# Altium schematic symbol library agh_racing_2018.SchLib: 97 symbols
Pins are listed as number, name and electrical type; pins without a type are passive.

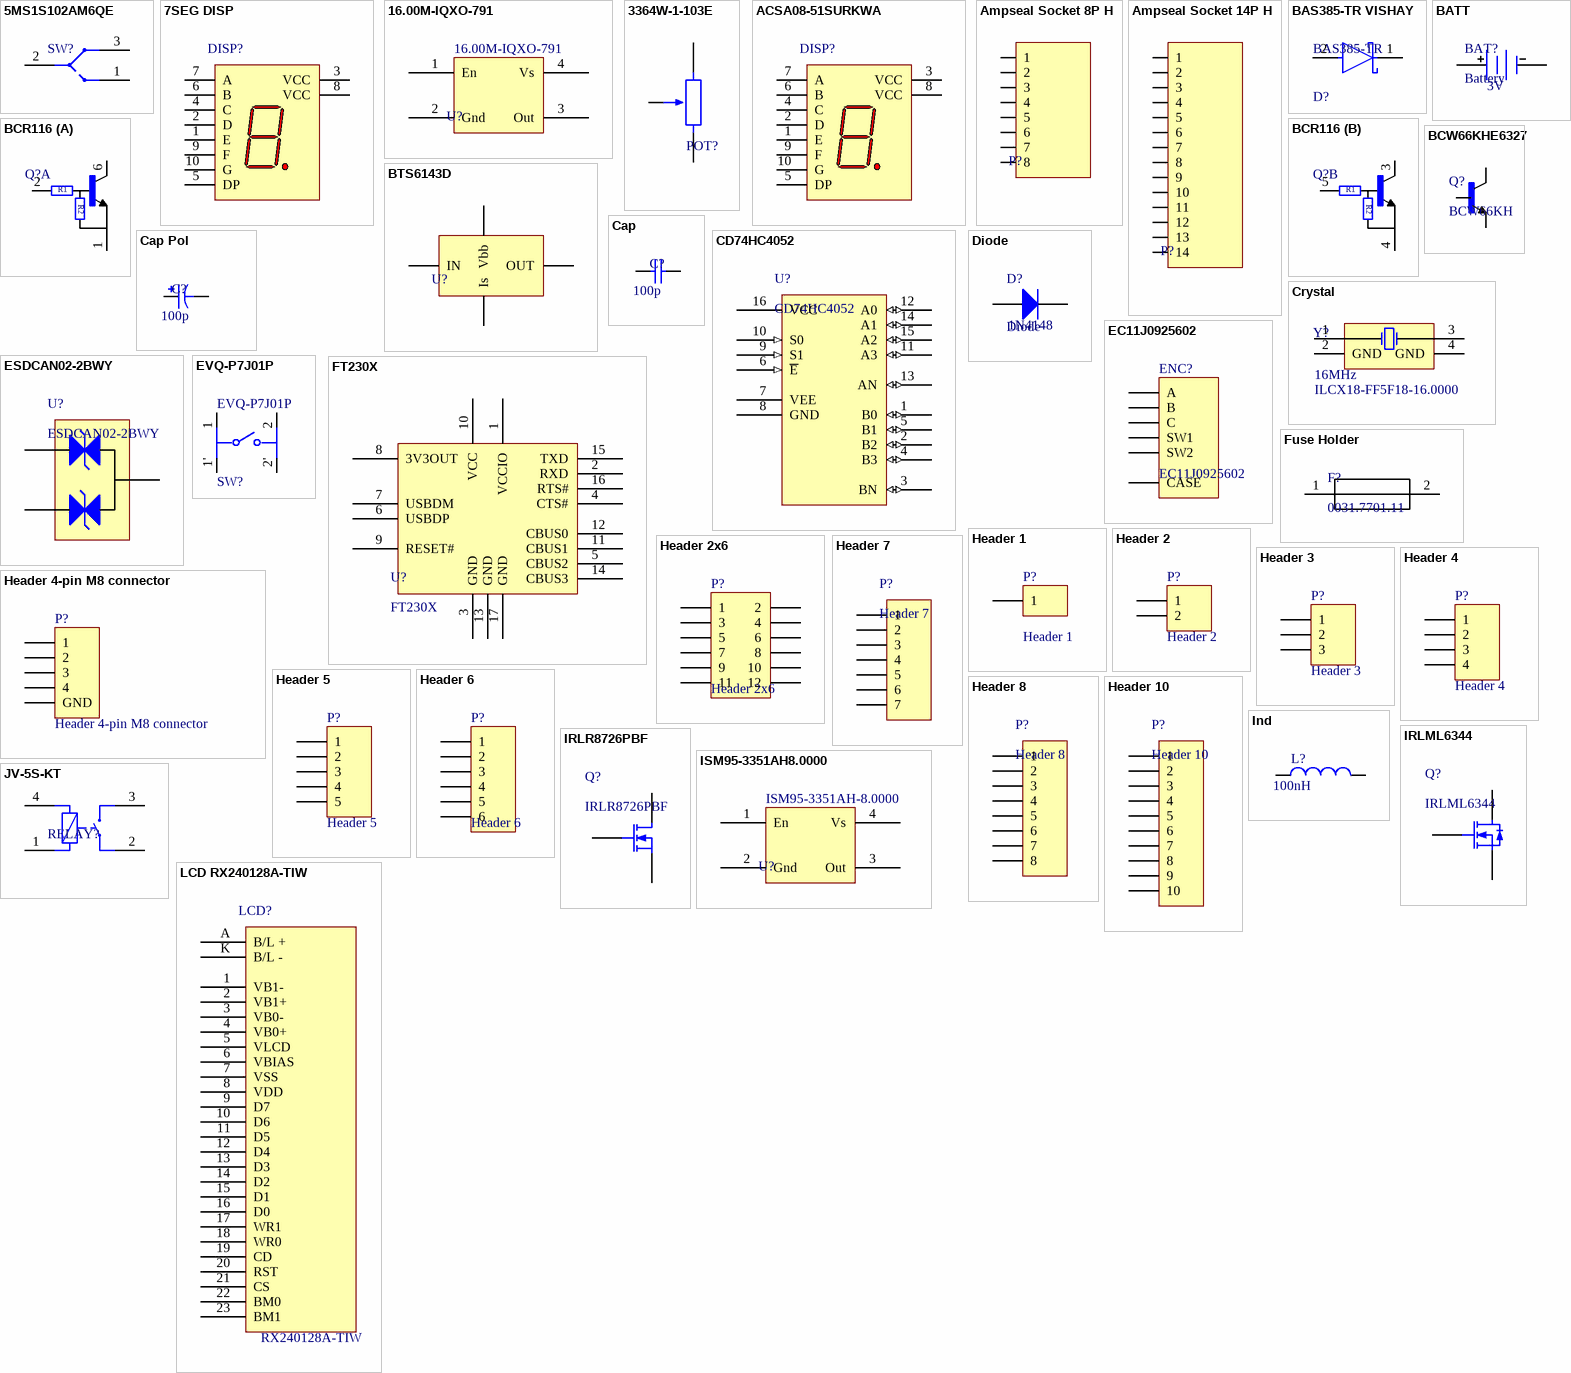
[diagram p0: symbols 5MS1S102AM6QE to LCD RX240128A-TIW]

## 5MS1S102AM6QE
designator SW?
Slide switch, 2 pos, right angle; Manufacturer: NINIGI; MPN: 5MS1S12AM6QE; SPN: 5MS1S102AM6QE; Supplier: TME
footprint 5MS1S102AM6QE (Slide switch, 2 pos, right angle)
pins: 1, 2, 3

## 7SEG DISP
designator DISP?  (value not drawn)
OPTO PLUS LED CORP. OPD-S8023LB-BW
footprint 7_SEG_LED_0.8_INCH (OPTO PLUS LED CORP. OPD-S8023LB-BW)
pins: 1 E "Cathode", 2 D "Cathode", 3 VCC (power) "Anode", 4 C "Cathode", 5 DP "Cathode", 6 B "Cathode", 7 A "Cathode", 8 VCC (power) "Anode", 9 F "Cathode", 10 G "Cathode"

## 16.00M-IQXO-791
designator U?  Name: 16.00M-IQXO-791
Crystal Clock Oscillator; Manufacturer: IQD FREQUENCY PRODUCTS; MPN: LFSPXO066657CUTT; Supplier: TME; SPN: 16.00M-IQXO-791
footprint ICLCX18
pins: 1 En, 2 Gnd, 3 Out, 4 Vs

## 3364W-1-103E
designator POT?
Trimming Potentiometer; Manufacturer: BOURNS; SPN: 3364W-1-103E; Supplier: TME; MPN: 3364W-1-103E
footprint 3364W-1-103E (Trimming Potentiometer)
pins: 1 CCW, 2 W, 3 CW

## ACSA08-51SURKWA
designator DISP?  (value not drawn)
Kingbright 0.8" Red 12mcd @ 10mA, common anode
footprint ACSA08-51SURKWA (Kingbright 0.8" SMD, common anode)
pins: 1 E "Cathode", 2 D "Cathode", 3 VCC (power) "Anode", 4 C "Cathode", 5 DP "Cathode", 6 B "Cathode", 7 A "Cathode", 8 VCC (power) "Anode", 9 F "Cathode", 10 G "Cathode"

## Ampseal Socket 8P H
designator P?
Ampseal socket, 8P, horizontal; Manufacturer: TE Connectivity; MPN: 1-776280-1; SPN: 571-1-776280-1; Supplier: Mouser
footprint AMPSEAL_8P_H_BK (Ampseal socket, 8P, horizontal, black)
pins: 1, 2, 3, 4, 5, 6, 7, 8

## Ampseal Socket 14P H
designator P?
Ampseal socket, 14P, horizontal; Manufacturer: TE Connectivity; MPN: 776266-5; SPN: 571-776266-5; Supplier: Mouser
footprint AMPSEAL_14P_H_B (Ampseal socket, 14P, horizontal, blue)
footprint AMPSEAL_14P_H_BK (Ampseal socket, 14P, horizontal, black)
pins: 1, 2, 3, 4, 5, 6, 7, 8, 9, 10, 11, 12, 13, 14

## BAS385-TR VISHAY
designator D?, comment BAS385-TR
DIODE SCHOTTKY 30V 200MA MICMELF; Manufacturer: Vishay; Value: 10pF; Peak Reverse Current: 2.3uA; Max Junction Temp: +125°C; Automotive Grade: Grade 1; Max Surge Forward Current: 5A; ComponentLink2Description: Datasheet; ComponentLink2URL: http://www.vishay.com/docs/85504/bas385.pdf; Device Class L3: Schottky Diodes; Device Class L2: Diodes; Device Class L1: Discrete Semiconductors; Mouser Description: Schottky Diodes & Rectifiers 30 Volt 200mA 300mA IFSM; Digikey Description: DIODE SCHOTTKY 30V 200MA MICMELF; Temperature: to +125°C; RoHS: TRUE; Temperature Range High: +125°C; Automotive: Yes; Reverse Voltage: 30V; Lead Free: Yes; Package: 6.560-5007.01-4; Capacitance: 10pF; Category: Diode; Octopart: https://octopart.com/bas385-tr-vishay-55507548; Forward Current: 200mA; Manufacturer Part Number: BAS385-TR; Height: 1.2mm
footprint MicroMELF_HD
footprint MicroMELF_LD
footprint MicroMELF_MD
pins: 1 C, 2 A

## BATT
designator BAT?, comment Battery  value 3V
footprint BR2032
footprint KEYSTONE 1056 (KEYSTONE KEYS1056  for  BR1220, CR1220 batteries, 4mm height, SMD)
pins: 1 +, 2 -

## BCR116
designator Q?, comment NPN BRT BCR116  (value not drawn)
NPN Transistors pair with built-in bias resistor, R1 = 4k7, R2 = 47k
footprint SOT363_IPC_MD (SOT363, 6-Leads, Body, Pitch 0,65mm, IPC Medium Density)
part A pins: 1 E1, 2 B1, 6 C1
part B pins: 3 C2, 4 E2, 5 B2
part A text: R1; R2
part B text: R1; R2

## BCW66KHE6327
designator Q?, comment BCW66KH
NPN Transistor
footprint SOT23_IPC_MD (SOT23, 3-Leads, Body 2.90x2.45mm, Pitch 0.95mm, IPC Medium Density)
pins: 1 E, 2 B, 3 C

## BTS6143D
designator U?
Power switch, high side; Manufacturer: INFINEON TECHNOLOGIES; MPN: BTS6143D; Supplier: TME; SPN: BTS6143D
footprint DPAK5_IPC_MD (D-PAK, 5-Pads, Body 6,2x6,7mm, IPC Medium Density); pin to pad 3>6
pins: 1 OUT, 2 IN, 3 Vbb, 4 Is, 5 OUT

## Cap
designator C?  value 100p  (hidden comment: Cap)
Capacitor
footprint CAP_0603_IPC_HD (Chip Capacitor, 2-Leads, Body 1,60x0,80mm, IPC High Density)
footprint CAP_0603_IPC_LD (Chip Capacitor, 2-Leads, Body 1.60x0.81mm, IPC Low Density)
footprint CAP_0603_IPC_MD (Chip Capacitor, 2-Leads, Body 1,60x0,80mm, IPC Medium Density)
footprint CAP_0805_IPC_HD (Chip Capacitor, 2-Leads, Body 2.00x1.25mm, IPC High Density)
footprint CAP_0805_IPC_LD (Chip Capacitor, 2-Leads, Body 2.00x1.25mm, IPC Low Density)
footprint CAP_0805_IPC_MD (Chip Capacitor, 2-Leads, Body 2.00x1.25mm, IPC Medium Density)
footprint CAP_1210 (Chip Capacitor, 2-Leads, Body 3,20x2,50mm, IPC Medium Density)
pins: 1, 2

## Cap Pol
designator C?  value 100p  (hidden comment: Cap Pol)
Polarized Capacitor
footprint CAP_SMD_C_IPC_HD (Molded Capacitor, 2-Leads, Body 6.30x3.20mm, IPC High Density)
footprint CAP_SMD_C_IPC_LD (Molded Capacitor, 2-Leads, Body 6.30x3.20mm, IPC Low Density)
footprint CAP_SMD_C_IPC_MD (Molded Capacitor, 2-Leads, Body 6.30x3.20mm, IPC Medium Density)
footprint CAP_SMD_D_IPC_MD (Molded Capacitor, 2-Leads, Body 7.30x4.30mm, IPC Medium Density)
footprint CAP_SMD_E_IPC_HD (Molded Capacitor, 2-Leads, Body 7.30x4.30mm, IPC High Density)
footprint CAP_SMD_E_IPC_LD (Molded Capacitor, 2-Leads, Body 7.30x4.30mm, IPC Low Density)
footprint CAP_SMD_E_IPC_MD (Molded Capacitor, 2-Leads, Body 7.30x4.30mm, IPC Medium Density)
pins: 1, 2
1 alternate drawing of the same symbol

## CD74HC4052
designator U?
MUX/DEMUX
footprint SOIC_16_IPC_MD (SOIC, 16-Leads, Pitch 1,27mm, IPC Medium Density)
footprint SSOP_16_IPC_MD (SSOP, 16-Leads, Pitch 0,64mm, IPC Medium Density)
footprint SO_14_IPC_MD (SOP, 14-Leads, Body 8,65x3,90mm, Pitch 1,27mm, IPC Medium Density)
pins: 1 B0 (io), 2 B2 (io), 3 BN (io), 4 B3 (io), 5 B1 (io), 6 ~{E} (in), 7 VEE (power), 8 GND (power), 9 S1 (in), 10 S0 (in), 11 A3 (io), 12 A0 (io), 13 AN (io), 14 A1 (io), 15 A2 (io), 16 VCC

## Crystal
designator Y?  value 16MHz  Manufacturer Part Number: ILCX18-FF5F18-16.0000
footprint ICLCX18
pins: 1 OSC1, 2 GND (power), 3 OSC3, 4 GND (power)

## Diode
designator D?  value 1N4148
footprint DIO_MELF_IPC_MD (MELF Diode, 2-Leads, Body 3.50x1.53mm, IPC MD)
footprint DO-214AC (JEDEC DO214 variation AC. SMA)
pins: 1 A, 2 K

## EC11J0925602
designator ENC?
Encoder EC11J0925602; Manufacturer: ALPS; Supplier: TME; Supplier Part Number: EC11J0925602; Manufacturer Part Number: EC11J0925602; Type: Encoder; Mounting Technology: SMD
footprint EC11J0925602 (Encoder, EC11J0925602); pin to pad SW1>D SW2>E
pins: A, B, C, CASE, SW1, SW2

## ESDCAN02-2BWY
designator U?
ESD CAN protection (2 transils)
footprint SOT23_IPC_MD (SOT23, 3-Leads, Body 2.90x2.45mm, Pitch 0.95mm, IPC Medium Density)
pins: 1 IN1, 2 IN2, 3 COM

## EVQ-P7J01P
designator SW?
SWITCH TACTILE SPST-NO 0.05A 12V; Manufacturer: Panasonic; Operating Force: 1.6N; Contact Current Rating: 50mA; Electromechanical Life: 100000Cycles; Contact Resistance: 500mΩ; Height: 1.55mm; Temperature Range Low: -20°C; Device Class L1: Electromechanical; Package: 0; RoHS: TRUE; Category: Switch; ComponentLink2Description: Datasheet; Device Class L2: Switches; Temperature Range High: +70°C; Mount: Surface Mount; Device Class L3: Tactile Switches; Temperature: -20°C to +70°C; Automotive: No; Manufacturer Part Number: EVQ-P7J01P; Mouser Description: Tactile Switches 3.5x2.9mm Right Ang Light Touch Switch; ComponentLink2URL: https://b2b-api.panasonic.eu/file_stream/pids/fileversion/2431; Lead Free: Yes; Octopart: https://octopart.com/evq-p7j01p-panasonic-29917078; Digikey Description: SWITCH TACTILE SPST-NO 0.05A 12V; Voltage Rating Dc: 12V; Throw Configuration: SPST-NO
footprint FP-EVQ-P7J01P-MFG
pins: 1, 1', 2, 2'

## FT230X
designator U?
footprint QFN16_IPC_MD (QFN, 16-Leads, Body 4.00x4.00mm, Pitch 0.65mm, Thermal Pad 2.08x2.08mm, IPC Medium Density)
pins: 1 VCCIO (power), 2 RXD, 3 GND (power), 4 CTS#, 5 CBUS2, 6 USBDP, 7 USBDM, 8 3V3OUT (power), 9 RESET#, 10 VCC (power), 11 CBUS1, 12 CBUS0, 13 GND (power), 14 CBUS3, 15 TXD, 16 RTS#, 17 GND (power)

## Fuse Holder
designator F?, comment 0031.7701.11
footprint FUSE_HOLDER
pins: 1 CANL, 2 CANL

## Header 1
designator P?
Header, 1-Pin
footprint HDR_1x1
footprint WIRE_PAD_1 ONE SIDE - small size (Wire Pads 2 Footprint)
footprint WIRE_PADS_1_BIG
pins: 1

## Header 2
designator P?
Header, 2-Pin
footprint HDR1X2 (Connector; Header; 2 Position)
footprint HDR1X2_angle (Connector; Header; 2 Position)
footprint HDR_1x2_3_94_LOCKING
footprint HDR_1x2_3_96_LOCKING_ANGLE
footprint WIRE_HOLES_2 (Wire Holes, 2-pin)
footprint WIRE_PADS_2 (Wire Pads 2 Footprint)
footprint WIRE_PADS_2_DOUBLE
pins: 1, 2

## Header 2x6
designator P?
Header, 2x6-Pin
pins: 1, 2, 3, 4, 5, 6, 7, 8, 9, 10, 11, 12

## Header 3
designator P?
Header, 3-Pin
footprint HDR_1X3 (Connector; Header; 3 Position)
footprint HDR1X3_ANGLE (Connector; Header; 3 Position)
footprint HDR_1x3_3_94_LOCKING
footprint HDR_1x3_3_96_LOCKING_ANGLE
footprint WIRE_PADS_3
footprint HDR_1X3 JST (Connector; Header; 3 Position)
footprint HEADER 1x3 2mm
footprint HEADER 1x3 1.27mm (Header, 3-Leads, Body 3.81x2.14mm, Pitch 1.27mm)
pins: 1, 2, 3

## Header 4
designator P?
Header, 4-Pin
footprint HDR1X4 (Connector; Header; 4 Position)
footprint HDR1X4_ANGLE (Connector; Header; 3 Position)
footprint HDR_1x4_3_94_LOCKING
footprint WIRE_PADS_4 (Wire Pads 2 Footprint)
footprint WIRE_PADS_4 ONE SIDE (Wire Pads 2 Footprint)
footprint HDR_1X4 JST (Connector; Header; 4 Position)
pins: 1, 2, 3, 4

## Header 4-pin M8 connector
designator P?
Header, 4-pin M8 connector
footprint M8S-04PMMR-SF8001 (CAN PCB Angle Connector)
pins: 1, 2, 3, 4, GND

## Header 5
designator P?
Header, 5-Pin
footprint HDR1X5 (Connector; Header; 5 Position)
footprint HDR_1x5_3_94_LOCKING
footprint WIRE_HOLES_5 (Wire Holes, 5-pin)
footprint HDR_1X5 JST (Connector; Header; 5 Position)
footprint HDR_1X5 2mm (Connector; Header; 5 Position)
pins: 1, 2, 3, 4, 5

## Header 6
designator P?
Header, 6-Pin
footprint HDR_1x6_3_94_LOCKING
footprint HEADER_2x3_1_27_MALE_SMD
footprint PINS_2x3_1_27_SMD
footprint SWD_POGO
footprint WIRE_PADS_6 (Wire Pads 2 Footprint)
footprint HDR_2x3_2.54_SMT
footprint HDR_1X6 2mm (Connector; Header; 6 Position)
footprint HEADER_2x3_1_17_WOMAN_THT
pins: 1, 2, 3, 4, 5, 6

## Header 7
designator P?
Header, 7-Pin
footprint HDR1X7
footprint WIRE_PADS_7 (Wire Pads 2 Footprint)
pins: 1, 2, 3, 4, 5, 6, 7

## Header 8
designator P?
Header, 8-Pin
footprint HDR_2x4
pins: 1, 2, 3, 4, 5, 6, 7, 8

## Header 10
designator P?
Header, 10-Pin
footprint HDR_1X10_Female (Connector; Header; 10 Position)
footprint HDR_1X10_Male (Connector; Header; 10 Position)
footprint SHDRV10W102P254_2X5_2032X895X915P
pins: 1, 2, 3, 4, 5, 6, 7, 8, 9, 10

## Ind
designator L?  value 100nH  (hidden comment: Ind)
Inductor
footprint IND_0603_IPC_HD (Chip Inductor, 2-Leads, Body 1.60x0.80mm, IPC High Density)
footprint IND_0603_IPC_LD (Chip Inductor, 2-Leads, Body 1.60x0.80mm, IPC Low Density)
footprint IND_0603_IPC_MD (Chip Inductor, 2-Leads, Body 1.60x0.80mm, IPC Medium Density)
footprint IND_DL50_IPC_MD (DL50, Inductor, Ferrocore, IPC Medium Density)
pins: 1, 2

## IRLML6344
designator Q?
N-MOSFET; Manufacturer Part Number: IRLML6344TRPBF; Manufacturer: INFINEON (IRF); Type: Transistor; Dren Current: 5A; Dren-Source Voltage: 30V; Supplier: TME; Supplier Part Number: IRLML6344TRPBF; Part Number: IRLML6344
footprint SOT23_IPC_MD (SOT23, 3-Leads, Body 2.90x2.45mm, Pitch 0.95mm, IPC Medium Density)
pins: 1 G, 2 S, 3 D

## IRLR8726PBF
designator Q?
n-mosfet
footprint DPAK_IPC_HD (D-PAK, 3-Pads, Body 6.21x6.73mm (max), IPC High Density)
footprint DPAK_IPC_LD
footprint DPAK_IPC_MD (D-PAK, 3-Pads, Body 6.20x6.66mm (max), IPC Medium Density)
pins: 1 G, 3 S, 4 D

## ISM95-3351AH8.0000
designator U?  Name: ISM95-3351AH-8.0000
Crystal Clock Oscillator; Manufacturer: ILSI; MPN: ISM95-3351AH-8.0000; Supplier: TME
footprint ISM95 (2.5x2.0x0.8mm SMD Oscillator)
pins: 1 En, 2 Gnd, 3 Out, 4 Vs

## JV-5S-KT
designator RELAY?
Relay mini, PCB; Manufacturer: FUJITSU-TAKAMISAWA; MPN: JV-5S-KT; Supplier: TME; SPN: JV-5S-KT
footprint JV-5S-KT (Relay mini, PCB)
pins: 1, 2, 3, 4

## LCD RX240128A-TIW
designator LCD?, comment Manufacturer Part Number: RX240128A-TIW  (hidden comment: LCD)
LCD, 240x128, FSTN, White on Black; Manufacturer: RAYSTAR OPTRONICS; Part Number: LCD RX240128A; Supplier Part Number: RX240128A-TIW; Supplier: TME; Type: LCD
footprint LCD RX240128A-TIW (LCD Footprint)
pins: 1 VB1-, 2 VB1+, 3 VB0-, 4 VB0+, 5 VLCD, 6 VBIAS, 7 VSS, 8 VDD, 9 D7, 10 D6, 11 D5, 12 D4, 13 D3, 14 D2, 15 D1, 16 D0, 17 WR1, 18 WR0, 19 CD, 20 RST, 21 CS, 22 BM0, 23 BM1, A B/L +, K B/L -

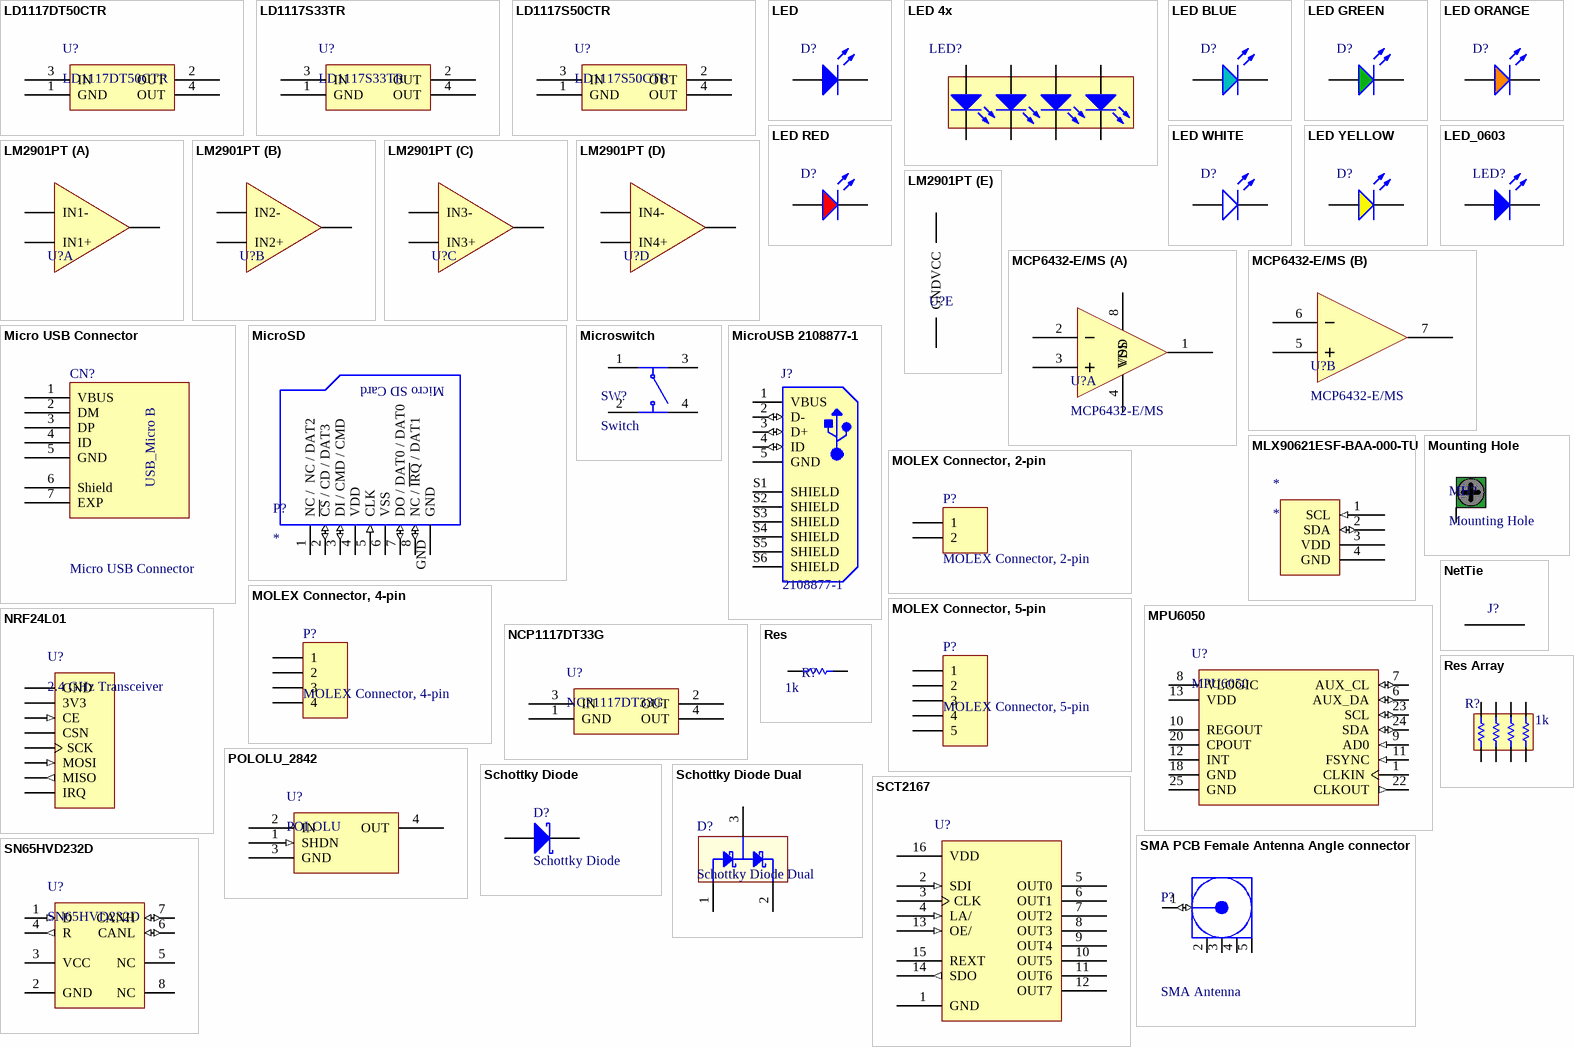
[diagram p1: symbols LD1117DT50CTR to SN65HVD232D]

## LD1117DT50CTR
designator U?
footprint DPAK_IPC_HD (D-PAK, 3-Pads, Body 6.21x6.73mm (max), IPC High Density)
footprint DPAK_IPC_LD
footprint DPAK_IPC_MD (D-PAK, 3-Pads, Body 6.20x6.66mm (max), IPC Medium Density)
pins: 1 GND (power), 2 OUT (power), 3 IN (power), 4 OUT (power)

## LD1117S33TR
designator U?
footprint SOT223_IPC_HD (SOT223, 4-Leads, Body 6.50x7.00mm (avg), Pitch 2.30mm, IPC High Density)
footprint SOT223_IPC_LD (SOT223, 4-Leads, Body 6.50x7.00mm (avg), Pitch 2.30mm, IPC Low Density)
footprint SOT223_IPC_MD (SOT223, 4-Leads, Body 6.50x7.00mm (avg), Pitch 2.30mm, IPC Medium Density)
pins: 1 GND (power), 2 OUT (power), 3 IN (power), 4 OUT (power)

## LD1117S50CTR
designator U?
footprint SOT223_IPC_HD (SOT223, 4-Leads, Body 6.50x7.00mm (avg), Pitch 2.30mm, IPC High Density)
footprint SOT223_IPC_LD (SOT223, 4-Leads, Body 6.50x7.00mm (avg), Pitch 2.30mm, IPC Low Density)
footprint SOT223_IPC_MD (SOT223, 4-Leads, Body 6.50x7.00mm (avg), Pitch 2.30mm, IPC Medium Density)
pins: 1 GND (power), 2 OUT (power), 3 IN (power), 4 OUT (power)

## LED
designator D?
pins: 1 A, 2 K

## LED 4x
designator LED?
Manufacturer: Lucky Light; MPN: LL-S194PUAC-2A; Supplier: TME; SPN: LL-S194PUAC-2A
footprint MENTOR 1296.2022 (4 x Molded Diode with light guide tubes)
pins: 1 A1, 2 K1, 3 A2, 4 K2, 5 A3, 6 K3, 7 A4, 8 K4

## LED BLUE
designator D?
footprint KPA_2106
footprint LED_0603_BLUE_IPC_MD (Molded Diode, 2-Leads, Body 1,60x0,80mm, IPC Medium Density)
pins: 1 A, 2 K

## LED GREEN
designator D?
footprint KPA_2106
footprint LED_0603_GREEN_IPC_MD (Molded Diode, 2-Leads, Body 1,60x0,80mm, IPC Medium Density)
pins: 1 A, 2 K

## LED ORANGE
designator D?
footprint KPA_2106
pins: 1 A, 2 K

## LED RED
designator D?
footprint KPA_2106
footprint LED_0603_RED_IPC_MD (Molded Diode, 2-Leads, Body 1,60x0,80mm, IPC Medium Density)
pins: 1 A, 2 K

## LED WHITE
designator D?
pins: 1 A, 2 K

## LED YELLOW
designator D?
footprint KPA_2106
footprint LED_0603_YELLOW_IPC_MD (Molded Diode, 2-Leads, Body 1,60x0,80mm, IPC Medium Density)
pins: 1 A, 2 K

## LED_0603
designator LED?
Manufacturer: Lucky Light; MPN: LL-S194PUAC-2A; Supplier: TME; SPN: LL-S194PUAC-2A
footprint LED_0603_IPC_MD (Molded Diode, 2-Leads, Body 1,60x0,80mm, IPC Medium Density)
pins: 1 K, 2 A

## LM2901PT
designator U?
Quad voltage comparator; Manufacturer: ST MICROELECTRONICS; SPN: LM2901PT; Supplier: TME; MPN: LM2901PT
footprint TSSOP14_IPC_MD (TSSOP, 14-Leads, Body 5,00x4,40mm, Pitch 0,65mm, IPC Medium Density)
part A pins: 2 OUT1, 4 IN1-, 5 IN1+
part B pins: 1 OUT2, 6 IN2-, 7 IN2+
part C pins: 8 IN3-, 9 IN3+, 14 OUT3
part D pins: 10 IN4-, 11 IN4+, 13 OUT4
part E pins: 3 VCC, 12 GND

## MCP6432-E/MS
designator U?
footprint MSOP8_IPC_MD (TSOP, 8-Leads, Body 3.00x3.00mm, Pitch 0.65mm, IPC Medium Density)
part A pins: 1 VOUTA, 2 VINA-, 3 VINA+, 4 VSS (power), 8 VDD (power)
part B pins: 5 VINB+, 6 VINB-, 7 VOUTB

## Micro USB Connector
designator CN?
pins: 1 VBUS, 2 DM, 3 DP, 4 ID, 5 GND, 6 Shield, 7 EXP
text: USB_Micro B

## MicroSD
designator P?
Micro SD Card Connector
footprint MICROSDCARD_SOCKET (MOLEX 502774-0891 - 1.10mm Pitch microSD* Memory Card Connector, Reverse Mount Surface Mount, Push-Push Type)
pins: 1 NC /  NC / DAT2, 2 ~{CS} / CD / DAT3 (io) "SPI bus mode: SPI Card Select (negative logic) // One-bit SDIO: Card Detection", 3 DI / CMD / CMD (io) "SPI bus mode: SPI Card Data In [MOSI] // One-bit SDIO: Command, Rsponse", 4 VDD (power) "Power", 5 CLK (in) "Serial Clock", 6 VSS (power) "GND", 7 DO / DAT0 / DAT0 (io) "SPI bus mode: SPI Serial Data Out [MISO] // One-bit SDIO: SD Serial Data 0", 8 NC / ~{IRQ} / DAT1 (io) "Unused (memory cards) or Interrupt (SDIO cards) (negative logic)", GND (power) "Connected to housing"
text: Micro SD Card

## Microswitch
designator SW?, comment Switch
footprint Microswitch_SMD_4_3mm (6*6mm vertical type, SMD, height 4.3mm, NINIGI, TACTM-64N-F)
pins: 1, 2, 3, 4

## MicroUSB 2108877-1
designator J?, comment 2108877-1
TE Connectivity
footprint MicroUSB_2108877-1
pins: 1 VBUS (power), 2 D- (io), 3 D+ (io), 4 ID (io), 5 GND (power), S1 SHIELD, S2 SHIELD, S3 SHIELD, S4 SHIELD, S5 SHIELD, S6 SHIELD

## MLX90621ESF-BAA-000-TU
designator *
IR Temperature Sensor 16x4 array FOV 120 deg
footprint TO-39 (Footprint not found)
pins: 1 SCL (in), 2 SDA (io), 3 VDD (power), 4 GND (power)

## MOLEX Connector, 2-pin
designator P?
Manufacturer Part Number: 022057028 22-05-7028 A-7395-2B; Supplier: TME; Supplier Part Number: MX-7395-02B; Manufacturer: MOLEX; Mounting Technology: THT; Type: Connector
footprint MOLEX_2PIN (MOLEX Connector, 2-pin)
pins: 1, 2

## MOLEX Connector, 4-pin
designator P?
Manufacturer Part Number: 022057048 22-05-7048 AE-7395-4B; Supplier: TME; Supplier Part Number: MX-7395-04B; Manufacturer: MOLEX; Mounting Technology: THT; Type: Connector
footprint MOLEX_4PIN (MOLEX Connector, 4-pin)
pins: 1, 2, 3, 4

## MOLEX Connector, 5-pin
designator P?
Manufacturer Part Number: 022057058 22-05-7058 A-7395-5B; Supplier: TME; Supplier Part Number: MX-7395-05B; Manufacturer: MOLEX; Mounting Technology: THT; Type: Connector
footprint MOLEX_5PIN (MOLEX Connector, 5-pin)
pins: 1, 2, 3, 4, 5

## Mounting Hole
designator MH?  (no BOM)
footprint MOUNTING HOLE 2mm
footprint MOUNTING HOLE 3mm
pins: MOUNTING

## MPU6050
designator U?
3 axis accelerometer and gyroscope
footprint QFN24_IPC_MD (QFN, 24-Leads, Body 4,00x4,00mm, Pitch 0,50mm, Thermal Pad 2,70x2,70mm, IPC Medium Density)
pins: 1 CLKIN, 6 AUX_DA (io), 7 AUX_CL (io), 8 VLOGIC (power), 9 AD0 (in), 10 REGOUT, 11 FSYNC (in), 12 INT (oc), 13 VDD (power), 18 GND (power), 19 RESV hidden, 20 CPOUT, 21 RESV hidden, 22 CLKOUT (out), 23 SCL (io), 24 SDA (io), 25 GND (power)

## NCP1117DT33G
designator U?
footprint DPAK_IPC_HD (D-PAK, 3-Pads, Body 6.21x6.73mm (max), IPC High Density)
footprint DPAK_IPC_LD
footprint DPAK_IPC_MD (D-PAK, 3-Pads, Body 6.20x6.66mm (max), IPC Medium Density)
pins: 1 GND (power), 2 OUT (power), 3 IN (power), 4 OUT (power)

## NetTie
designator J?  (value not drawn)  (net tie, no BOM)
footprint NETTIE
footprint NETTIE_10MIL
footprint NETTIE_20mil
pins: 1, 2

## NRF24L01
designator U?, comment 2.4 GHz Transceiver
footprint NRF24L01
pins: 1 GND (power), 2 3V3 (power), 3 CE (in), 4 CSN, 5 SCK, 6 MOSI (in), 7 MISO (out), 8 IRQ

## POLOLU_2842
designator U?, comment POLOLU
footprint POLOLU_MINI
footprint POLOLU_MINI_GOLDPINS
pins: 1 SHDN (in), 2 IN (power), 3 GND (power), 4 OUT (power)

## Res
designator R?  value 1k  (hidden comment: Res)
Resistor
footprint RES_0603_IPC_HD (Chip Resistor, 2-Leads, Body 1,55x0,80mm, IPC High Density)
footprint RES_0603_IPC_MD (Chip Resistor, 2-Leads, Body 1,55x0,80mm, IPC Medium Density)
footprint RES_0805_IPC_MD (Chip Resistor, 2-Leads, 0805, Royal Ohm, IPC Medium Density)
footprint RES_1206_IPC_MD (Chip Resistor, 2-Leads, 1206, IPC Medium Density)
pins: 1, 2

## Res Array
designator R?, comment value 1k  (hidden comment: Res)
Array Chip Resistors
footprint RES_ARR_1206_IPC_LD (Chip Array, Concave, 8-Leads, Pitch 0,80mm,  Body 3,20x1,60mm,  IPC Low Density)
footprint RES_ARR_1206_IPC_MD (Chip Array, Concave, 8-Leads, Pitch 0,80mm,  Body 3,20x1,60mm,  IPC Medium Density)
pins: 1, 2, 3, 4, 5, 6, 7, 8

## Schottky Diode
designator D?
Manufacturer: VISHAY; Manufacturer Part Number: LL42-GS08 (for MiniMELF); Supplier: TME
footprint DO214AB_IPC_MD (Molded Diode, DO214AB, Diotec Semiconductor, IPC Medium Density)
footprint DO-214AC (JEDEC DO214 variation AC. SMA)
footprint MiniMELF_IPC_MD (MELF Diode, 2-Leads, Body 3.50x1.65mm, IPC Medium Density)
pins: 1 A, 2 K

## Schottky Diode Dual
designator D?
Schottky Diode Dual, max 00mA Forward Current; Manufacturer: VISHAY; Manufacturer Part Number: BAT54S; Supplier: TME; Supplier Part Number: BAT54S-E3-08
footprint SOT23_IPC_MD (SOT23, 3-Leads, Body 2.90x2.45mm, Pitch 0.95mm, IPC Medium Density)
pins: 1, 2, 3

## SCT2167
designator U?  (value not drawn)
Led controller
footprint SSOP_16_IPC_MD (SSOP, 16-Leads, Pitch 0,64mm, IPC Medium Density)
pins: 1 GND (power), 2 SDI (in), 3 CLK, 4 LA/ (in), 5 OUT0 (oc), 6 OUT1 (oc), 7 OUT2 (oc), 8 OUT3 (oc), 9 OUT4 (oc), 10 OUT5 (oc), 11 OUT6 (oc), 12 OUT7 (oc), 13 OE/ (in), 14 SDO (out), 15 REXT, 16 VDD (power)

## SMA PCB Female Antenna Angle connector
designator P?, comment SMA Antenna
Gniazdo; SMA; żeńskie; kątowe 90°; 50Ω; THT; na PCB; teflon; złocony; Manufaturer: TE CONNECTIVITY; Manufacturer Symbol: 5-1814400-1; Supplier: TME; Supplier Symbol: 5-1814400-1
footprint SMA_PCB_Female_Angle_connector
pins: 1 Signal (io) "Signal Pin", 2 GND (power), 3 GND (power), 4 GND (power), 5 GND (power)

## SN65HVD232D
designator U?
3.3V CAN Transceiver with Standby Mode, 17 mA, -40 to 85 degC, 8-pin SOIC (D), Green (RoHS & no Sb/Br)
footprint SOIC_8_IPC_HD (SOIC, 8-Leads, Body 4.90x3.90mm, Pitch 1.27mm, IPC High Density)
footprint SOIC_8_IPC_MD (SOIC, 8-Leads, Pitch 1,27mm, IPC Medium Density)
pins: 1 D (in) "Driver input", 2 GND (power) "Ground", 3 VCC (power) "Supply voltage", 4 R (out) "Receiver output", 5 NC, 6 CANL (io) "Low bus output", 7 CANH (io) "High bus output", 8 NC

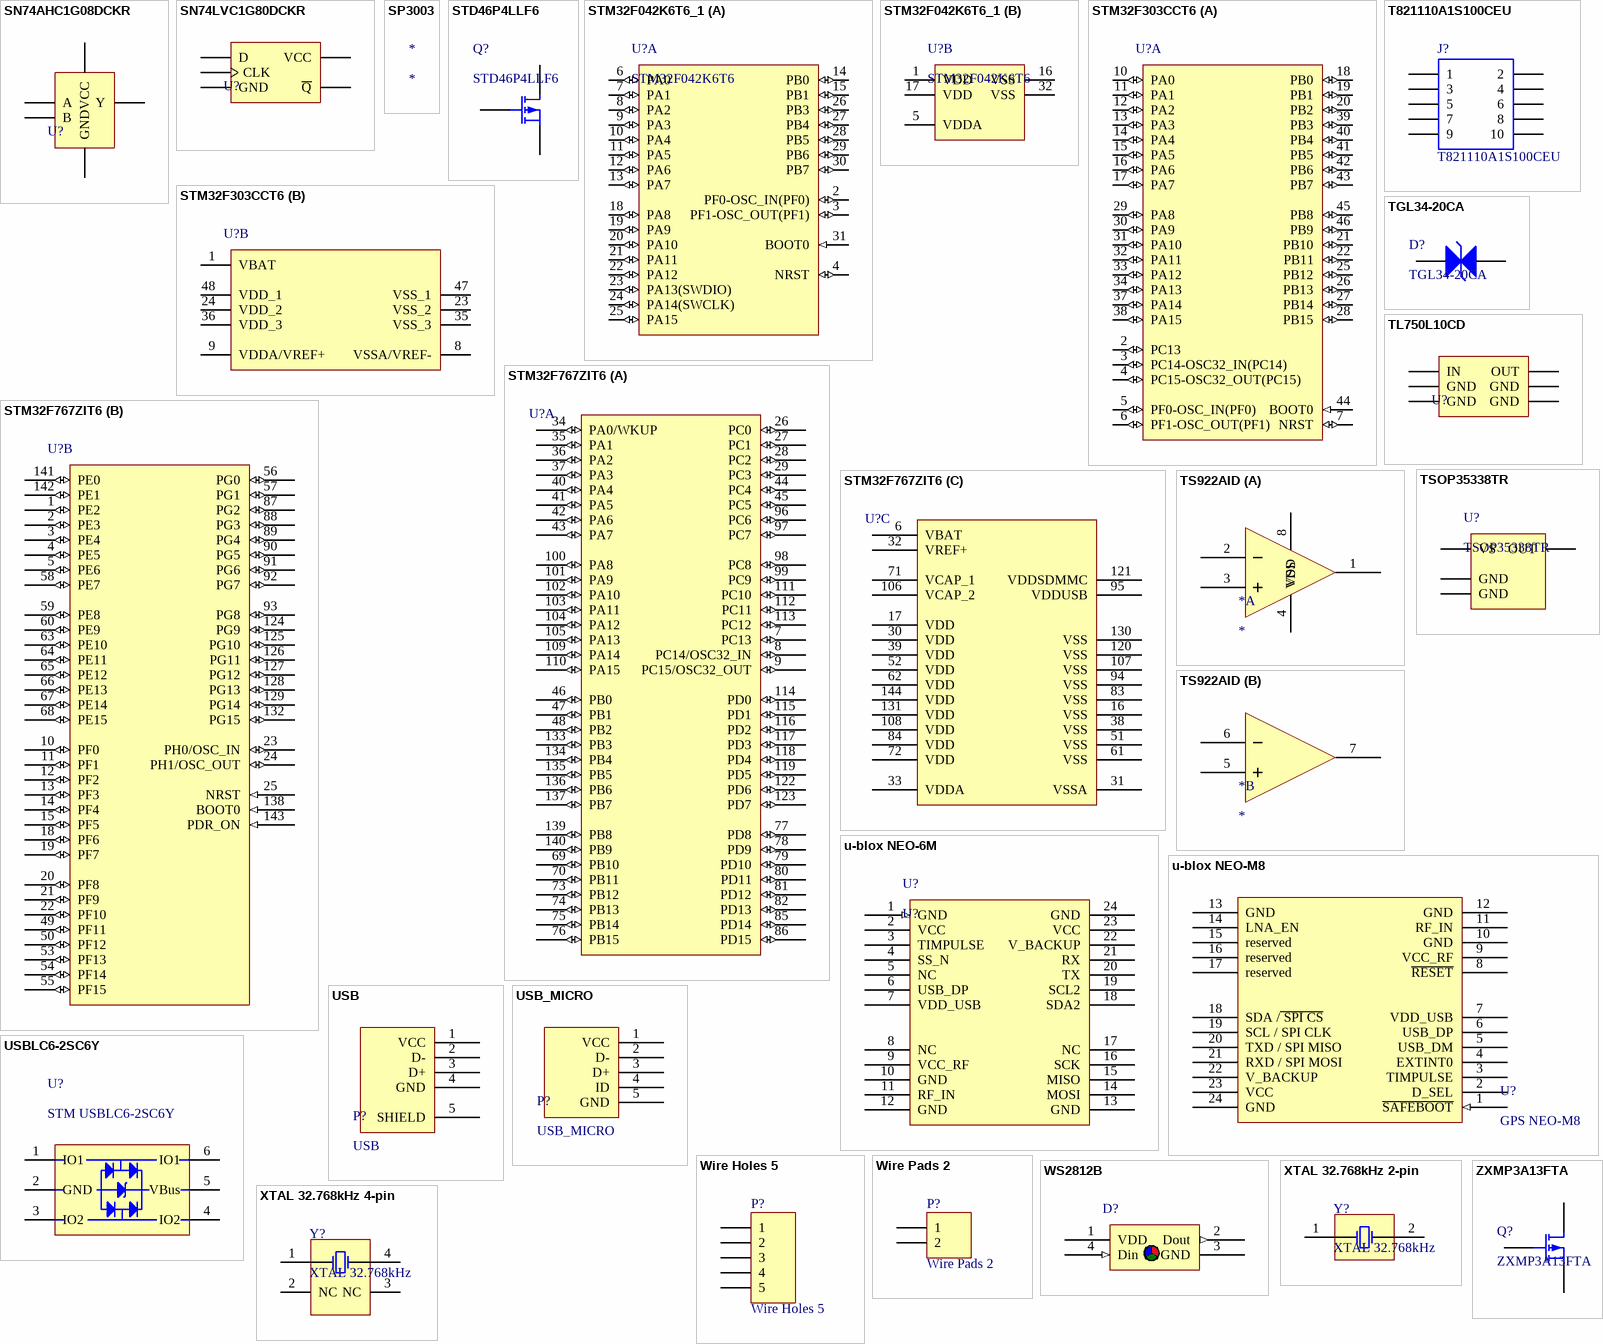
[diagram p2: symbols SN74AHC1G08DCKR to ZXMP3A13FTA]

## SN74AHC1G08DCKR
designator U?
AND gate; Manufacturer: TEXAS INSTRUMENTS; SPN: SN74AHC1G08DCKR; Supplier: TME; MPN: SN74AHC1G08DCKR
footprint SC70-5_IPC_MD (SOT23, 5-Leads, Body 1,30x2,10mm, Pitch 0,65mm, IPC Medium Density)
pins: 1 A, 2 B, 3 GND, 4 Y, 5 VCC

## SN74LVC1G80DCKR
designator U?
D FlipFlop; Manufacturer: TEXAS INSTRUMENTS; SPN: SN74LVC1G80DCKR; Supplier: TME; MPN: SN74LVC1G80DCKR
footprint SC70-5_IPC_MD (SOT23, 5-Leads, Body 1,30x2,10mm, Pitch 0,65mm, IPC Medium Density)
pins: 1 D, 2 CLK, 3 GND, 4 ~{Q}, 5 VCC

## SP3003
designator *

## STD46P4LLF6
designator Q?
p-mosfet
footprint DPAK_IPC_HD (D-PAK, 3-Pads, Body 6.21x6.73mm (max), IPC High Density)
footprint DPAK_IPC_LD
footprint DPAK_IPC_MD (D-PAK, 3-Pads, Body 6.20x6.66mm (max), IPC Medium Density)
pins: 1 G, 3 S, 4 D

## STM32F042K6T6_1
designator U?, comment STM32F042K6T6
ARM Cortex-M0 32-bit MCU, 32 KB Flash, 6 KB Internal RAM, 26 I/Os, 32-pin LQFP, -40 to 85 degC, Tray
footprint LQFP32_IPC_MD (TQFP, 32-Leads, Body 7.00x7.00mm, Pitch 0.80mm, IPC Medium Density)
footprint LQFP32_IPC_HD (TQFP, 32-Leads, Body 7.00x7.00mm, Pitch 0.80mm, IPC High Density)
footprint LQFP32_IPC_LD (TQFP, 32-Leads, Body 7.00x7.00mm, Pitch 0.80mm, IPC Low Density)
part A pins: 2 PF0-OSC_IN(PF0) (io) "PF0-OSC_IN(PF0)/OSC_IN", 3 PF1-OSC_OUT(PF1) (io) "PF1-OSC_OUT(PF1)/OSC_OUT", 4 NRST (io) "Device reset input / internal reset output (active low)", 6 PA0 (io) "PA0/USART1_CTS/ADC_IN0,RTC_TAMP2,WKUP1", 7 PA1 (io) "PA1/USART1_RTS,EVENTOUT/ADC_IN1", 8 PA2 (io) "PA2/USART1_TX/ADC_IN2", 9 PA3 (io) "PA3/USART1_RX/ADC_IN3", 10 PA4 (io) "PA4/SPI1_NSS,USART1_CK,TIM14_CH1/ADC_IN4", 11 PA5 (io) "PA5/SPI1_SCK/ADC_IN5", 12 PA6 (io) "PA6/SPI1_MISO,TIM3_CH1,TIM1_BKIN,TIM16_CH1,EVENTOUT/ADC_IN6", 13 PA7 (io) "PA7/SPI1_MOSI,TIM3_CH2,TIM14_CH1,TIM1_CH1N,TIM17_CH1,EVENTOUT/ADC_IN7", 14 PB0 (io) "PB0/TIM3_CH3,TIM1_CH2N,EVENTOUT/ADC_IN8", 15 PB1 (io) "PB1/TIM3_CH4,TIM14_CH1,TIM1_CH3N/ADC_IN9", 18 PA8 (io) "PA8/USART1_CK,TIM1_CH1,EVENTOUT,MCO", 19 PA9 (io) "PA9/USART1_TX,TIM1_CH2,I2C1_SCL", 20 PA10 (io) "PA10/USART1_RX,TIM1_CH3,TIM17_BKIN,I2C1_SDA", 21 PA11 (io) "PA11/USART1_CTS,TIM1_CH4,EVENTOUT", 22 PA12 (io) "PA12/USART1_RTS,TIM1_ETR,EVENTOUT", 23 PA13(SWDIO) (io) "PA13(SWDIO)/IR_OUT,SWDIO", 24 PA14(SWCLK) (io) "PA14(SWCLK)/USART1_TX,SWCLK", 25 PA15 (io) "PA15/SPI1_NSS,USART1_RX,EVENTOUT", 26 PB3 (io) "PB3/SPI1_SCK,EVENTOUT", 27 PB4 (io) "PB4/SPI1_MISO,TIM3_CH1,EVENTOUT", 28 PB5 (io) "PB5/SPI1_MOSI,I2C1_SMBA,TIM16_BKIN,TIM3_CH2", 29 PB6 (io) "PB6/I2C1_SCL,USART1_TX,TIM16_CH1N", 30 PB7 (io) "PB7/I2C1_SDA,USART1_RX,TIM17_CH1N", 31 BOOT0 (in) "Boot memory selection"
part B pins: 1 VDD (power) "Digital power supply", 5 VDDA (power) "Analog power supply", 16 VSS (power) "Ground", 17 VDD (power) "Digital power supply", 32 VSS (power) "Ground"

## STM32F303CCT6
designator U?
ARM Cortex-M4 32-bit MCU, 256 KB Flash, 40 KB Internal RAM, 37 I/Os, 48-pin LQFP, -40 to 85 degC, Tray; PartNumber: STM32F303CCT6; D/A Converter: 2x12-bit (2 Channel); FLASH Size (Prog) (kB): 256; I/Os (High Current): 37; Internal RAM Size (kB): 40; Operating Frequency(F) (Processor speed) (MHz): 72; Supply Voltage(Vcc) min (V): 2; DatasheetVersion: Rev. 6; PackageVersion: Rev. 6, 06/2013; PackageReference: LQFP48; PackageDescription: 48-Pin Low Profile Quad Flat Package, 7 x 7 mm Body, 0.5 mm Pitch; Supplier 1: Digi-Key; Supplier Part Number 1: 497-13318-ND; Supplier 2: Newark; Supplier Part Number 2: 46W2192; Supplier 3: Newark; Supplier Part Number 3: 66W7286; Supplier 4: Mouser; Supplier Part Number 4: 511-STM32F303CCT6; Core: ARM Cortex-M4; Packing: Tray; Mounting Technology: Surface Mount; ComponentLink1Description: Manufacturer URL; ComponentLink1URL: http://www.st.com/web/en/home.html; ComponentLink2Description: Datasheet; ComponentLink2URL: http://www.st.com/st-web-ui/static/active/en/resource/technical/document/datasheet/DM00058181.pdf; ComponentLink3Description: Package Specification; ComponentLink3URL: http://www.st.com/st-web-ui/static/active/en/resource/technical/document/datasheet/DM00058181.pdf
footprint LQFP48_IPC_HD (TSQFP, 48-Leads, Body 7.00x7.00mm, Pitch 0.50mm, IPC High Density)
footprint LQFP48_IPC_LD (TSQFP, 48-Leads, Body 7.00x7.00mm, Pitch 0.50mm, IPC Low Density)
footprint LQFP48_IPC_MD (TSQFP, 48-Leads, Body 7.00x7.00mm, Pitch 0.50mm, IPC Medium Density)
part A pins: 2 PC13 (io) "PC13/TIM1_CH1N/WKUP2,RTC_TAMP1,RTC_TS,RTC_OUT", 3 PC14-OSC32_IN(PC14) (io) "PC14-OSC32_IN(PC14)/OSC32_IN", 4 PC15-OSC32_OUT(PC15) (io) "PC15-OSC32_OUT(PC15)/OSC32_OUT", 5 PF0-OSC_IN(PF0) (io) "PF0-OSC_IN(PF0)/TIM1_CH3N,I2C2_SDA/OSC_IN", 6 PF1-OSC_OUT(PF1) (io) "PF1-OSC_OUT(PF1)/I2C2_SCL/OSC_OUT", 7 NRST (io) "Device reset input / internal reset output (active low)", 10 PA0 (io) "PA0/USART2_CTS,TIM2_CH1_ETR,TIM8_BKIN,TIM8_ETR,TSC_G1_IO1,COMP1_OUT,EVENTOUT/ADC1_IN1,COMP1_INM,RTC_TAMP2,WKUP1,COMP7_INP", 11 PA1 (io) "PA1/USART2_RTS,TIM2_CH2,TSC_G1_IO2,TIM15_CH1N,RTC_REFIN,EVENTOUT/ADC1_IN2,COMP1_INP,OPAMP1_VINP,OPAMP3_VINP", 12 PA2 (io) "PA2/USART2_TX,TIM2_CH3,TIM15_CH1,TSC_G1_IO3,COMP2_OUT,EVENTOUT/ADC1_IN3,COMP2_INM,OPAMP1_VOUT", 13 PA3 (io) "PA3/USART2_RX,TIM2_CH4,TIM15_CH2,TSC_G1_IO4,EVENTOUT/ADC1_IN4,OPAMP1_VINP,COMP2_INP,OPAMP1_VINM", 14 PA4 (io) "PA4/SPI1_NSS,SPI3_NSS,I2S3_WS,USART2_CK,TSC_G2_IO1,TIM3_CH2,EVENTOUT/ADC2_IN1,DAC1_OUT1,OPAMP4_VINP,COMP1_INM,COMP2_INM,COMP3_INM,COMP4_INM,COMP5_INM,COMP6_INM,COMP7_INM", 15 PA5 (io) "PA5/SPI1_SCK,TIM2_CH1_ETR,TSC_G2_IO2,EVENTOUT/ADC2_IN2,DAC1_OUT2,OPAMP1_VINP,OPAMP2_VINM,OPAMP3_VINP,COMP1_INM,COMP2_INM,COMP3_INM,COMP4_INM,COMP5_INM,COMP6_INM,COMP7_INM", 16 PA6 (io) "PA6/SPI1_MISO,TIM3_CH1,TIM8_BKIN,TIM1_BKIN,TIM16_CH1,COMP1_OUT,TSC_G2_IO3,EVENTOUT/ADC2_IN3,OPAMP2_VOUT", 17 PA7 (io) "PA7/SPI1_MOSI,TIM3_CH2,TIM17_CH1,TIM1_CH1N,TIM8_CH1N,TSC_G2_IO4,COMP2_OUT,EVENTOUT/ADC2_IN4,COMP2_INP,OPAMP2_VINP,OPAMP1_VINP", 18 PB0 (io) "PB0/TIM3_CH3,TIM1_CH2N,TIM8_CH2N,TSC_G3_IO2,EVENTOUT/ADC3_IN12,COMP4_INP,OPAMP3_VINP,OPAMP2_VINP", 19 PB1 (io) "PB1/TIM3_CH4,TIM1_CH3N,TIM8_CH3N,COMP4_OUT,TSC_G3_IO3,EVENTOUT/ADC3_IN1,OPAMP3_VOUT", 20 PB2 (io) "PB2/TSC_G3_IO4,EVENTOUT/ADC2_IN12,COMP4_INM,OPAMP3_VINM", 21 PB10 (io) "PB10/USART3_TX,TIM2_CH3,TSC_SYNC,EVENTOUT/COMP5_INM,OPAMP4_VINM,OPAMP3_VINM", 22 PB11 (io) "PB11/USART3_RX,TIM2_CH4,TSC_G6_IO1,EVENTOUT/COMP6_INP,OPAMP4_VINP", 25 PB12 (io) "PB12/SPI2_NSS,I2S2_WS,I2C2_SMBA,USART3_CK,TIM1_BKIN,TSC_G6_IO2,EVENTOUT/ADC4_IN3,COMP3_INM,OPAMP4_VOUT", 26 PB13 (io) "PB13/SPI2_SCK,I2S2_CK,USART3_CTS,TIM1_CH1N,TSC_G6_IO3,EVENTOUT/ADC3_IN5,COMP5_INP,OPAMP4_VINP,OPAMP3_VINP", 27 PB14 (io) "PB14/SPI2_MISO,I2S2ext_SD,USART3_RTS,TIM1_CH2N,TIM15_CH1,TSC_G6_IO4,EVENTOUT/COMP3_INP,ADC4_IN4,OPAMP2_VINP", 28 PB15 (io) "PB15/SPI2_MOSI,I2S2_SD,TIM1_CH3N,RTC_REFIN,TIM15_CH1N,TIM15_CH2,EVENTOUT/ADC4_IN5,COMP6_INM", 29 PA8 (io) "PA8/I2C2_SMBA,I2S2_MCK,USART1_CK,TIM1_CH1,TIM4_ETR,MCO,COMP3_OUT,EVENTOUT", 30 PA9 (io) "PA9/I2C2_SCL,I2S3_MCK,USART1_TX,TIM1_CH2,TIM2_CH3,TIM15_BKIN,TSC_G4_IO1,COMP5_OUT,EVENTOUT", 31 PA10 (io) "PA10/I2C2_SDA,USART1_RX,TIM1_CH3,TIM2_CH4,TIM8_BKIN,TIM17_BKIN,TSC_G4_IO2,COMP6_OUT,EVENTOUT", 32 PA11 (io) "PA11/USART1_CTS,USB_DM,CAN_RX,TIM1_CH1N,TIM1_CH4,TIM1_BKIN2,TIM4_CH1,COMP1_OUT,EVENTOUT", 33 PA12 (io) "PA12/USART1_RTS,USB_DP,CAN_TX,TIM1_CH2N,TIM1_ETR,TIM4_CH2,TIM16_CH1,COMP2_OUT,EVENTOUT", 34 PA13 (io) "PA13/USART3_CTS,TIM4_CH3,TIM16_CH1N,TSC_G4_IO3,IR_OUT,SWDIO-JTMS,EVENTOUT", 37 PA14 (io) "PA14/I2C1_SDA,USART2_TX,TIM8_CH2,TIM1_BKIN,TSC_G4_IO4,SWCLK-JTCK,EVENTOUT", 38 PA15 (io) "PA15/I2C1_SCL,SPI1_NSS,SPI3_NSS,I2S3_WS,JTDI,USART2_RX,TIM1_BKIN,TIM2_CH1_ETR,TIM8_CH1,EVENTOUT", 39 PB3 (io) "PB3/SPI3_SCK,I2S3_CK,SPI1_SCK,USART2_TX,TIM2_CH2,TIM3_ETR,TIM4_ETR,TIM8_CH1N,TSC_G5_IO1,JTDO-TRACESWO,EVENTOUT", 40 PB4 (io) "PB4/SPI3_MISO,I2S3ext_SD,SPI1_MISO,USART2_RX,TIM3_CH1,TIM16_CH1,TIM17_BKIN,TIM8_CH2N,TSC_G5_IO2,NJTRST,EVENTOUT", 41 PB5 (io) "PB5/SPI3_MOSI,SPI1_MOSI,I2S3_SD,I2C1_SMBA,USART2_CK,TIM16_BKIN,TIM3_CH2,TIM8_CH3N,TIM17_CH1,EVENTOUT", 42 PB6 (io) "PB6/I2C1_SCL,USART1_TX,TIM16_CH1N,TIM4_CH1,TIM8_CH1,TSC_G5_IO3,TIM8_ETR,TIM8_BKIN2,EVENTOUT", 43 PB7 (io) "PB7/I2C1_SDA,USART1_RX,TIM3_CH4,TIM4_CH2,TIM17_CH1N,TIM8_BKIN,TSC_G5_IO4,EVENTOUT", 44 BOOT0 (in) "Boot memory selection", 45 PB8 (io) "PB8/I2C1_SCL,CAN_RX,TIM16_CH1,TIM4_CH3,TIM8_CH2,TIM1_BKIN,TSC_SYNC,COMP1_OUT,EVENTOUT", 46 PB9 (io) "PB9/I2C1_SDA,CAN_TX,TIM17_CH1,TIM4_CH4,TIM8_CH3,IR_OUT,COMP2_OUT,EVENTOUT"
part B pins: 1 VBAT (power) "Backup power supply", 8 VSSA/VREF- (power) "Analog ground/Negative reference voltage", 9 VDDA/VREF+ (power) "Analog power supply/Positive reference voltage", 23 VSS_2 (power) "Digital power supply", 24 VDD_2 (power) "Digital power supply", 35 VSS_3 (power) "Ground", 36 VDD_3 (power) "Digital power supply", 47 VSS_1 (power) "Ground", 48 VDD_1 (power) "Digital power supply"

## STM32F767ZIT6
designator U?
ARM Cortex-M4 32-bit MCU, 2048 KB Flash, 512 KB Internal RAM, 114 I/Os, 144-pin LQFP, -40 to 85 degC, Tray
footprint LQFP144_IPC_MD (TSQFP, 144-Leads, Body 20.00x20.00mm, Pitch 0.50mm, IPC Medium Density)
part A pins: 7 PC13 (io), 8 PC14/OSC32_IN (io), 9 PC15/OSC32_OUT (io), 26 PC0 (io), 27 PC1 (io), 28 PC2 (io), 29 PC3 (io), 34 PA0/WKUP (io), 35 PA1 (io), 36 PA2 (io), 37 PA3 (io), 40 PA4 (io), 41 PA5 (io), 42 PA6 (io), 43 PA7 (io), 44 PC4 (io), 45 PC5 (io), 46 PB0 (io), 47 PB1 (io), 48 PB2 (io), 69 PB10 (io), 70 PB11 (io), 73 PB12 (io), 74 PB13 (io), 75 PB14 (io), 76 PB15 (io), 77 PD8 (io), 78 PD9 (io), 79 PD10 (io), 80 PD11 (io), 81 PD12 (io), 82 PD13 (io), 85 PD14 (io), 86 PD15 (io), 96 PC6 (io), 97 PC7 (io), 98 PC8 (io), 99 PC9 (io), 100 PA8 (io), 101 PA9 (io), 102 PA10 (io), 103 PA11 (io), 104 PA12 (io), 105 PA13 (io), 109 PA14 (io), 110 PA15 (io), 111 PC10 (io), 112 PC11 (io), 113 PC12 (io), 114 PD0 (io), 115 PD1 (io), 116 PD2 (io), 117 PD3 (io), 118 PD4 (io), 119 PD5 (io), 122 PD6 (io), 123 PD7 (io), 133 PB3 (io), 134 PB4 (io), 135 PB5 (io), 136 PB6 (io), 137 PB7 (io), 139 PB8 (io), 140 PB9 (io)
part B pins: 1 PE2 (io), 2 PE3 (io), 3 PE4 (io), 4 PE5 (io), 5 PE6 (io), 10 PF0 (io), 11 PF1 (io), 12 PF2 (io), 13 PF3 (io), 14 PF4 (io), 15 PF5 (io), 18 PF6 (io), 19 PF7 (io), 20 PF8 (io), 21 PF9 (io), 22 PF10 (io), 23 PH0/OSC_IN (io), 24 PH1/OSC_OUT (io), 25 NRST (in), 49 PF11 (io), 50 PF12 (io), 53 PF13 (io), 54 PF14 (io), 55 PF15 (io), 56 PG0 (io), 57 PG1 (io), 58 PE7 (io), 59 PE8 (io), 60 PE9 (io), 63 PE10 (io), 64 PE11 (io), 65 PE12 (io), 66 PE13 (io), 67 PE14 (io), 68 PE15 (io), 87 PG2 (io), 88 PG3 (io), 89 PG4 (io), 90 PG5 (io), 91 PG6 (io), 92 PG7 (io), 93 PG8 (io), 124 PG9 (io), 125 PG10 (io), 126 PG11 (io), 127 PG12 (io), 128 PG13 (io), 129 PG14 (io), 132 PG15 (io), 138 BOOT0 (in), 141 PE0 (io), 142 PE1 (io), 143 PDR_ON (in)
part C pins: 6 VBAT (power), 16 VSS (power), 17 VDD (power), 30 VDD (power), 31 VSSA (power), 32 VREF+ (power), 33 VDDA (power), 38 VSS (power), 39 VDD (power), 51 VSS (power), 52 VDD (power), 61 VSS (power), 62 VDD (power), 71 VCAP_1 (power), 72 VDD (power), 83 VSS (power), 84 VDD (power), 94 VSS (power), 95 VDDUSB (power), 106 VCAP_2 (power), 107 VSS (power), 108 VDD (power), 120 VSS (power), 121 VDDSDMMC (power), 130 VSS (power), 131 VDD (power), 144 VDD (power)

## T821110A1S100CEU
designator J?
HEADER, VERTICAL, 2.54MM, 10WAY Amphenol T821 Series, 2.54mm Pitch 10 Way 2 Row Straight PCB Header, Solder Termination, 3A; Manufacturer_Name: Amphenol; Manufacturer_Part_Number: T821110A1S100CEU; RS Part Number: 8323528; RS Price/Stock: http://uk.rs-online.com/web/p/products/8323528; Datasheet Link: http://www.amphenolinfocom.eu/NavData/Drawings/T821-XxxXXS100CEU.pdf
footprint SHDRV10W102P254_2X5_2032X895X915P
pins: 1, 2, 3, 4, 5, 6, 7, 8, 9, 10

## TGL34-20CA
designator D?
Transil
footprint DIO_MELF_IPC_MD (MELF Diode, 2-Leads, Body 3.50x1.53mm, IPC MD)
pins: 1 IN1, 2 IN2

## TL750L10CD
designator U?
10V LDO; Manufacturer: TEXAS INSTRUMENTS; SPN: TL750L10CD; Supplier: TME; MPN: TL750L10CD
footprint SOIC_8_IPC_MD (SOIC, 8-Leads, Pitch 1,27mm, IPC Medium Density)
pins: 1 OUT, 2 GND, 3 GND, 6 GND, 7 GND, 8 IN

## TS922AID
designator *
footprint SOIC_8_IPC_MD (SOIC, 8-Leads, Pitch 1,27mm, IPC Medium Density)
part A pins: 1 VOUTA, 2 VINA-, 3 VINA+, 4 VSS (power), 8 VDD (power)
part B pins: 5 VINB+, 6 VINB-, 7 VOUTB

## TSOP35338TR
designator U?
TSOP35338TR IR Receiver
footprint TSOP75338TR
pins: 1 GND (power), 2 VS (power), 3 OUT, 4 GND (power)

## u-blox NEO-6M
designator U?, comment U?
footprint NEO (u-blox NEO GNSS module)
pins: 1 GND (in), 2 VCC, 3 TIMPULSE, 4 SS_N, 5 NC, 6 USB_DP, 7 VDD_USB, 8 NC, 9 VCC_RF, 10 GND, 11 RF_IN, 12 GND, 13 GND, 14 MOSI, 15 MISO, 16 SCK, 17 NC, 18 SDA2, 19 SCL2, 20 TX, 21 RX, 22 V_BACKUP, 23 VCC, 24 GND

## u-blox NEO-M8
designator U?, comment GPS NEO-M8
footprint NEO (u-blox NEO GNSS module)
pins: 1 ~{SAFEBOOT} (in), 2 D_SEL, 3 TIMPULSE, 4 EXTINT0, 5 USB_DM, 6 USB_DP, 7 VDD_USB, 8 ~{RESET}, 9 VCC_RF, 10 GND, 11 RF_IN, 12 GND, 13 GND, 14 LNA_EN, 15 reserved, 16 reserved, 17 reserved, 18 SDA /~{ SPI CS}, 19 SCL / SPI CLK, 20 TXD / SPI MISO, 21 RXD / SPI MOSI, 22 V_BACKUP, 23 VCC, 24 GND

## USB
designator P?
footprint USB_A_SMD
pins: 1 VCC (power), 2 D-, 3 D+, 4 GND (power), 5 SHIELD

## USB_MICRO
designator P?
footprint USB_MICRO_B_SMD
pins: 1 VCC (power), 2 D-, 3 D+, 4 ID (power), 5 GND

## USBLC6-2SC6Y
designator U?, comment STM USBLC6-2SC6Y
Automotive very low capacitance ESD protection (USB)
footprint SOT23-6L_IPC_MD
pins: 1 IO1 "Cathode", 2 GND "Cathode", 3 IO2 (power) "Anode", 4 IO2 "Cathode", 5 VBus "Cathode", 6 IO1 "Cathode"

## Wire Holes 5
designator P?
Wire Holes, 5-Pin; Supplier: *; Supplier Part Number: *; Manufacturer: *
footprint WIRE_HOLES_5 (Wire Holes, 5-pin)
pins: 1, 2, 3, 4, 5

## Wire Pads 2
designator P?
Wire Pads, 2-Pin; Supplier: *; Supplier Part Number: *; Manufacturer: *
footprint WIRE_PADS_2 (Wire Pads 2 Footprint)
pins: 1, 2

## WS2812B
designator D?  (value not drawn)
Programmable RGB LED
footprint WS2812B
pins: 1 VDD (power), 2 Dout (out), 3 GND (power), 4 Din (in)

## XTAL 32.768kHz 2-pin
designator Y?, comment XTAL 32.768kHz
Crystal Oscillator 32.768kHz; Manufacturer: IQD FREQUENCY PRODUCTS; Manufacturer Symbol: 32.768K-CFPX217; Supplier: TME
footprint XTAL 32.768kHz 3.2x1.5mm (2-Leads, Body 1,5x3,20mm)
pins: 1 OSC1, 2 OSC2

## XTAL 32.768kHz 4-pin
designator Y?, comment XTAL 32.768kHz
Crystal Oscillator 32.768kHz; Manufacturer: IQD FREQUENCY PRODUCTS; Spplier Symbol: 32.768K-85SMXR; Supplier: TME
simulation model XTAL (Spice Subcircuit)
footprint XTAL 32.768kHz LFXTAL016178REEL (4-Leads, Body 8,70x3,80mm)
pins: 1 OSC1, 2 NC, 3 NC, 4 OSC2

## ZXMP3A13FTA
designator Q?
P-mosfet
footprint SOT23_IPC_MD (SOT23, 3-Leads, Body 2.90x2.45mm, Pitch 0.95mm, IPC Medium Density)
pins: 1 G, 2 S, 3 D